# Altium schematic symbol library logic_latch.SchLib: 6 symbols
Pins are listed as number, name and electrical type; pins without a type are passive.

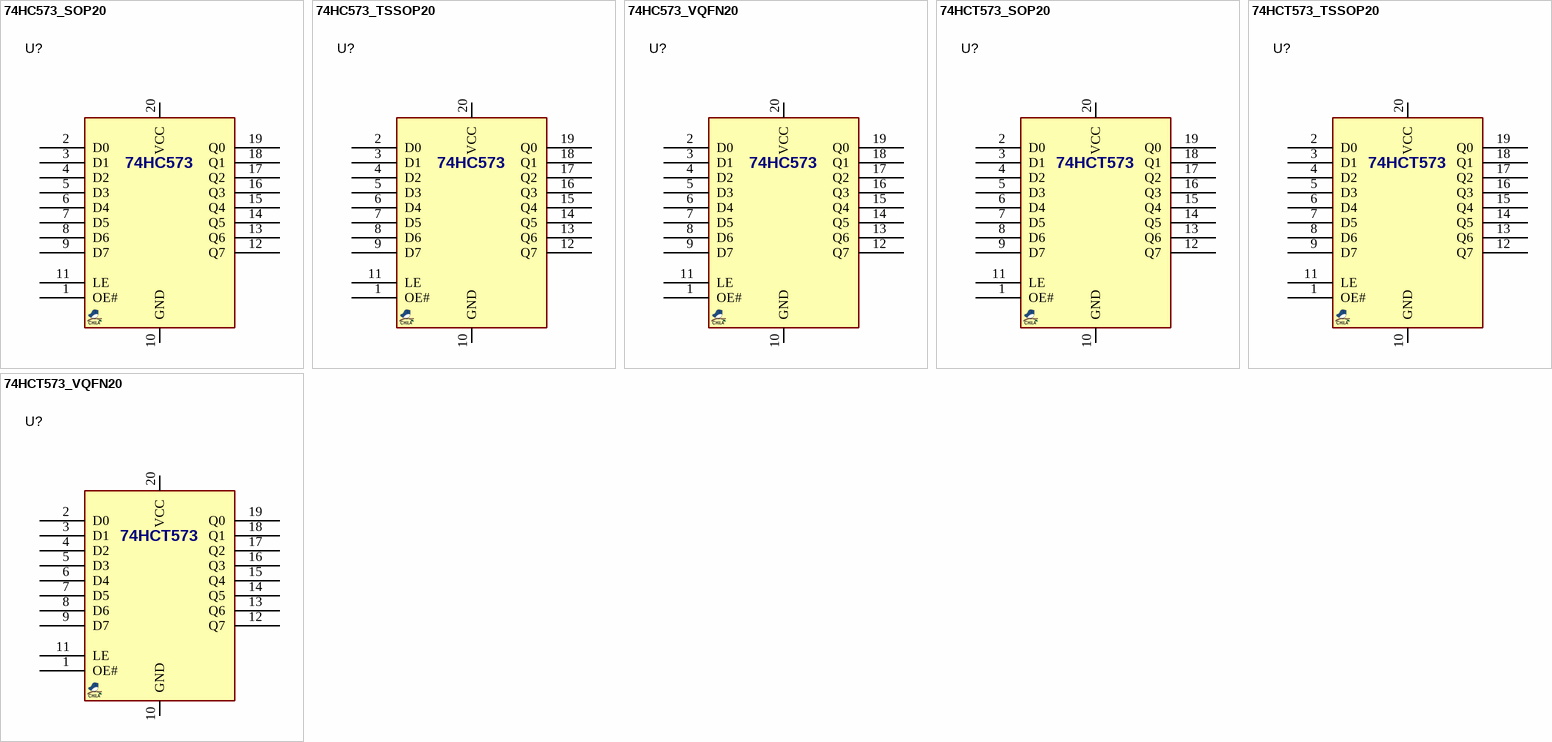
[diagram p0: symbols 74HC573_SOP20 to 74HCT573_VQFN20]

## 74HC573_SOP20
designator U?, comment 74HC573  (value not drawn)
Latch, Octal, D-type transparent; MANF: NXP; MANF_P#: 74HC573D; PARAM2: 2~6VCC; PARAM: 35mA, 14ns@5V, -40~125°C; PACKAGE: SOIC-20W; VALUE: 74HC573
footprint SO_20_W (SOP, SOIC, 7.5mm width, 1.27mm pitch,)
pins: 1 OE#, 2 D0, 3 D1, 4 D2, 5 D3, 6 D4, 7 D5, 8 D6, 9 D7, 10 GND, 11 LE, 12 Q7, 13 Q6, 14 Q5, 15 Q4, 16 Q3, 17 Q2, 18 Q1, 19 Q0, 20 VCC

## 74HC573_TSSOP20
designator U?, comment 74HC573  (value not drawn)
Latch, Octal, D-type transparent; MANF: NXP; MANF_P#: 74HC573PW; PARAM2: 2~6VCC; PARAM: 35mA, 14ns@5V, -40~125°C; PACKAGE: TSSOP-20; VALUE: 74HC573
footprint SOG65_20 (PW TSSOP (TI), MO-153-AC (JEDEC), 20Lead, pitch: 0.65mm, 6.5x4.4x1.2mm)
pins: 1 OE#, 2 D0, 3 D1, 4 D2, 5 D3, 6 D4, 7 D5, 8 D6, 9 D7, 10 GND, 11 LE, 12 Q7, 13 Q6, 14 Q5, 15 Q4, 16 Q3, 17 Q2, 18 Q1, 19 Q0, 20 VCC

## 74HC573_VQFN20
designator U?, comment 74HC573  (value not drawn)
Latch, Octal, D-type transparent; MANF: NXP; MANF_P#: 74HC573BQ; PARAM2: 2~6VCC; PARAM: 35mA, 14ns@5V, -40~125°C; PACKAGE: DHVQFN-20; VALUE: 74HC573
footprint QFN50_20T_4525 (RKS VQFN-20, 0.5mm Pitch, 4.5x2.5x1mm)
pins: 1 OE#, 2 D0, 3 D1, 4 D2, 5 D3, 6 D4, 7 D5, 8 D6, 9 D7, 10 GND, 11 LE, 12 Q7, 13 Q6, 14 Q5, 15 Q4, 16 Q3, 17 Q2, 18 Q1, 19 Q0, 20 VCC

## 74HCT573_SOP20
designator U?, comment 74HCT573  (value not drawn)
Latch, Octal, D-type transparent; MANF: NXP; MANF_P#: 74HCT573D; PARAM2: 4.5~5.5VCC; PARAM: 35mA, 14ns@5V, -40~125°C; PACKAGE: SOIC-20W; VALUE: 74HCT573
footprint SO_20_W (SOP, SOIC, 7.5mm width, 1.27mm pitch,)
pins: 1 OE#, 2 D0, 3 D1, 4 D2, 5 D3, 6 D4, 7 D5, 8 D6, 9 D7, 10 GND, 11 LE, 12 Q7, 13 Q6, 14 Q5, 15 Q4, 16 Q3, 17 Q2, 18 Q1, 19 Q0, 20 VCC

## 74HCT573_TSSOP20
designator U?, comment 74HCT573  (value not drawn)
Latch, Octal, D-type transparent; MANF: NXP; MANF_P#: 74HCT573PW; PARAM2: 4.5~5.5VCC; PARAM: 35mA, 14ns@5V, -40~125°C; PACKAGE: TSSOP-20; VALUE: 74HCT573
footprint SOG65_20 (PW TSSOP (TI), MO-153-AC (JEDEC), 20Lead, pitch: 0.65mm, 6.5x4.4x1.2mm)
pins: 1 OE#, 2 D0, 3 D1, 4 D2, 5 D3, 6 D4, 7 D5, 8 D6, 9 D7, 10 GND, 11 LE, 12 Q7, 13 Q6, 14 Q5, 15 Q4, 16 Q3, 17 Q2, 18 Q1, 19 Q0, 20 VCC

## 74HCT573_VQFN20
designator U?, comment 74HCT573  (value not drawn)
Latch, Octal, D-type transparent; MANF: NXP; MANF_P#: 74HCT573BQ; PARAM2: 4.5~5.5VCC; PARAM: 35mA, 14ns@5V, -40~125°C; PACKAGE: DHVQFN-20; VALUE: 74HCT573
footprint QFN50_20T_4525 (RKS VQFN-20, 0.5mm Pitch, 4.5x2.5x1mm)
pins: 1 OE#, 2 D0, 3 D1, 4 D2, 5 D3, 6 D4, 7 D5, 8 D6, 9 D7, 10 GND, 11 LE, 12 Q7, 13 Q6, 14 Q5, 15 Q4, 16 Q3, 17 Q2, 18 Q1, 19 Q0, 20 VCC